# EAGLE library part ADBM-A350 (library microbuilder)
ADBM-A350 - Optical Finger Navigation Sensor VDD: 1.7-2.1V (1.8V Typical) VDDIO: 1.65-3.6V (1.8V or 2.8V Typical) Operating Temp: -20-70°C FPC Connector: Hirose FH26-17S-0.3SHW(05)
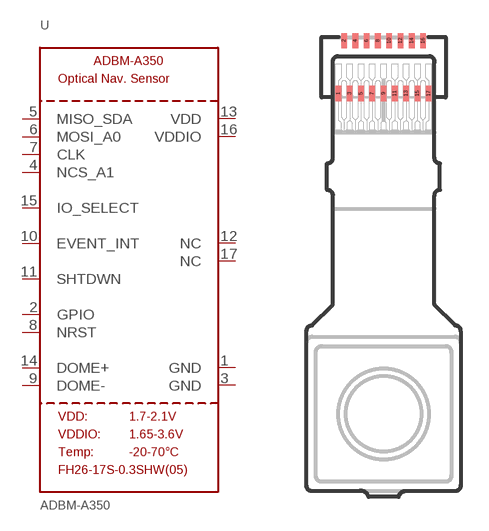
[diagram p187: symbol with the pads of ADBM-A350; footprint ADBM-A350]

Designator prefix U

## ADBM-A350  [ADBM-A350]
1  GND  pwr
2  GPIO  in
3  GND  pwr
4  NCS_A1  in
5  MISO_SDA  in
6  MOSI_A0  in
7  CLK  in
8  NRST  in
9  DOME-  in
10  EVENT_INT  in
11  SHTDWN  in
12  NC  nc
13  VDD  pwr
14  DOME+  in
15  IO_SELECT  in
16  VDDIO  pwr
17  NC  nc

## Footprint ADBM-A350 (pad centres in mm)
ADBM-A350 - Outline Only
smd 0.3 x 0.8: 1 -2.4,16.38; 2 -2.1,19.18; 3 -1.8,16.38; 4 -1.5,19.18; 5 -1.2,16.38; 6 -0.9,19.18; 7 -0.6,16.38; 8 -0.3,19.18; 9 0,16.38; 10 0.3,19.18; 11 0.6,16.38; 12 0.9,19.18; 13 1.2,16.38; 14 1.5,19.18; 15 1.8,16.38; 16 2.1,19.18; 17 2.4,16.38